# Altium footprint library lt1661.PcbLib: 1 footprints
Each footprint in its own frame and in the unit in brackets; x right, y up, seen from the top. Pads: shape width x height; smd on the part's side, far side on the other; paste and mask are expansions set on the pad; w line width, h text height; cw(c..) or ccw(c..) is an arc to the next point about the centre after c.
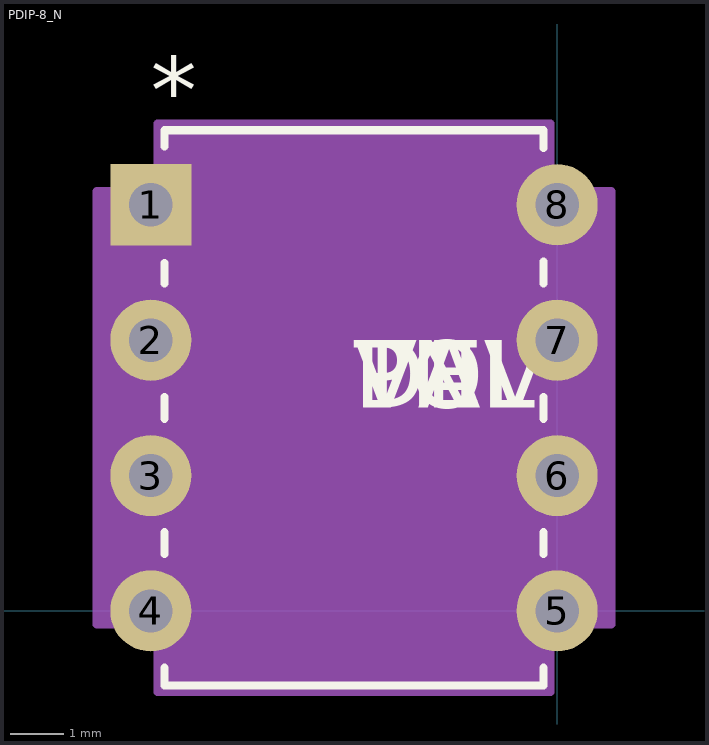
[diagram p0: the footprint, top view; thin cyan lines are the x and y axes]

## PDIP-8_N [mil]
pads (8):
  rect 60x60 / inner round 60 / far side rect 60x60 hole 32 paste+0 mask+0: 1(-300,300)
  round 60 hole 32 paste+0 mask+0: 2(-300,200) 3(-300,100) 4(-300,0) 5(0,0) 6(0,100) 7(0,200) 8(0,300)
Top Overlay:
  lines w6: -290,-41.92 -290,-55 -10,-55 -10,-41.92 ; -290,41.92 -290,58.08 ; -290,141.92 -290,158.08 ; -290,241.92 -290,256.9 ; -290,343.1 -290,355 -10,355 -10,341.92 ; -10,41.92 -10,58.08 ; -10,141.92 -10,158.08 ; -10,241.92 -10,258.08
  text "*" at -300,360 h50
  text "PN" at -150,150 h50
  text "DEV" at -150,150 h50
  text "VAL" at -150,150 h50
  text "TOL" at -150,150 h50
Mechanical 13:
  lines w0: -162,350 ccw(c-150,350) -138,350
  lines w1: -316,-16 -316,16 -285,16 -285,-16 -316,-16 ; -316,84 -316,116 -285,116 -285,84 -316,84 ; -316,184 -316,216 -285,216 -285,184 -316,184 ; -316,284 -316,316 -285,316 -285,284 -316,284 ; -285,-50 -15,-50 -15,350 -285,350 -285,-50 ; -15,-16 -15,16 16,16 16,-16 -15,-16 ; -15,84 -15,116 16,116 16,84 -15,84 ; -15,184 -15,216 16,216 16,184 -15,184 ; -15,284 -15,316 16,316 16,284 -15,284
  text "*" at -275,300 h50
  text "RefDes2" at -150,150 h50
Mechanical 15:
  region: -5,-10 40,-10 40,310 -5,310 -5,360 -295,360 -295,310 -340,310 -340,-10 -295,-10 -295,-60 -5,-60
  lines w6: -340,-10 -340,310 -295,310 -295,360 -5,360 -5,310 40,310 40,-10 -5,-10 -5,-60 -295,-60 -295,-10 -340,-10
3D body: height 10, standoff 0, extent 0,0 10,10